# Altium schematic symbol library PL2303.SchLib: 1 symbol
Pins are listed as number, name and electrical type; pins without a type are passive.

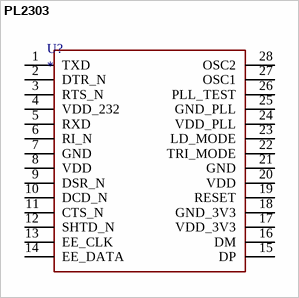
[diagram p0: symbol PL2303]

## PL2303
designator U?
USB to Serial Bridge Controller
footprint SOP28
pins: 1 TXD "Termal Pad", 2 DTR_N "Termal Pad", 3 RTS_N "Termal Pad", 4 VDD_232 "Termal Pad", 5 RXD "Termal Pad", 6 RI_N "Termal Pad", 7 GND "Termal Pad", 8 VDD "Termal Pad", 9 DSR_N "Termal Pad", 10 DCD_N "Termal Pad", 11 CTS_N "Termal Pad", 12 SHTD_N "Termal Pad", 13 EE_CLK "Termal Pad", 14 EE_DATA "Termal Pad", 15 DP "Termal Pad", 16 DM "Termal Pad", 17 VDD_3V3 "Termal Pad", 18 GND_3V3 "Termal Pad", 19 RESET "Termal Pad", 20 VDD "Termal Pad", 21 GND "Termal Pad", 22 TRI_MODE "Termal Pad", 23 LD_MODE "Termal Pad", 24 VDD_PLL "Termal Pad", 25 GND_PLL "Termal Pad", 26 PLL_TEST "Termal Pad", 27 OSC1 "Termal Pad", 28 OSC2 "Termal Pad"